# Altium integrated library PTPS2116DRLR.IntLib: 1 symbol
Pins are listed as number, name and electrical type; pins without a type are passive.

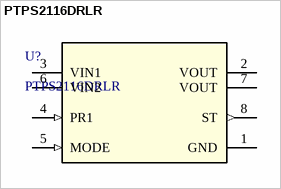
[diagram p0: symbol PTPS2116DRLR]

## PTPS2116DRLR
designator U?
1.6-V to 5.5-V, 40-mâ„¦, 2.5-A, low-IQ, priority power multiplexer ; 8-SOT-5X3 -40 to 125; Manufacturer_Name: Texas Instruments; TYPE: TYPE; RefDes: RefDes; Copyright: Copyright (C) 2025 Ultra Librarian. All rights reserved.; Manufacturer_Part_Number: PTPS2116DRLR
footprint DRL0008A-MFG
pins: 1 GND (power), 2 VOUT, 3 VIN1 (power), 4 PR1 (in), 5 MODE (in), 6 VIN2 (power), 7 VOUT, 8 ST (out)